# EAGLE library part IEEE1394 (library con-yamaichi)
YAMAICHI CONNECTOR
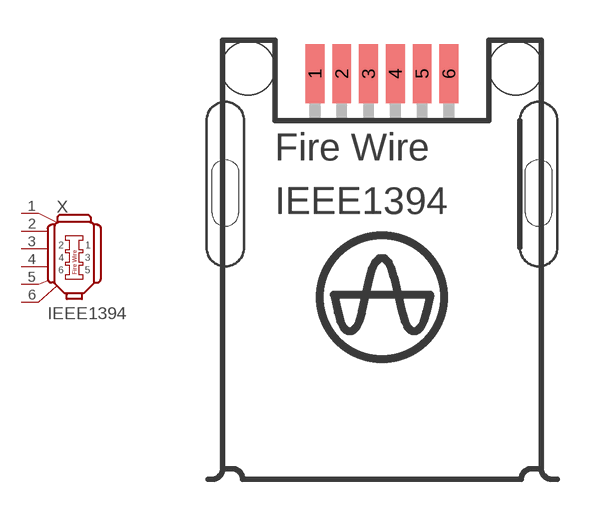
[diagram p28: symbol with the pads of IEEE1394; footprint IEEE1394]

Designator prefix X

## IEEE1394  [IEEE1394]
1  1  pas
2  2  pas
3  3  pas
4  4  pas
5  5  pas
6  6  pas

## Footprint IEEE1394 (pad centres in mm)
Fire Wire YAMAICHI CONNECTOR
smd 0.7 x 2.2: 1 -2.5,8.25; 2 -1.5,8.25; 3 -0.5,8.25; 4 0.5,8.25; 5 1.5,8.25; 6 2.5,8.25
hole 2 at -5,8.45
hole 2 at 5,8.45